# Altium footprint library F839C0300051.PcbLib: 1 footprints
Each footprint in its own frame and in the unit in brackets; x right, y up, seen from the top. Pads: shape width x height; smd on the part's side, far side on the other; paste and mask are expansions set on the pad; w line width, h text height; cw(c..) or ccw(c..) is an arc to the next point about the centre after c.
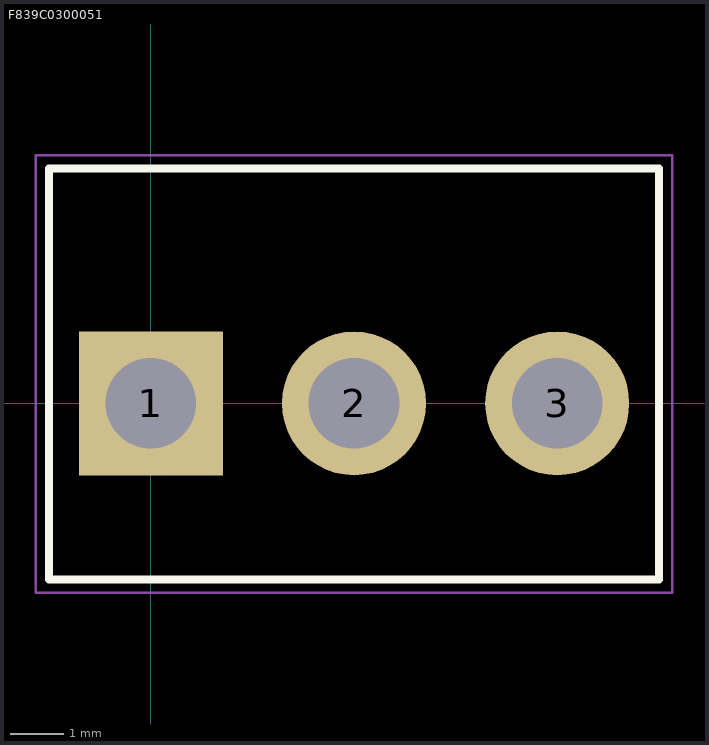
[diagram p0: the footprint, top view; thin cyan lines are the x and y axes]

## F839C0300051 [mm]
height 7.7
pads (3):
  rect 2.7x2.7 hole 1.7: 1(0,0)
  round 2.7 hole 1.7: 2(3.81,0) 3(7.62,0)
Top Overlay:
  lines w0.152: -1.905,-3.3 9.525,-3.3 9.525,4.4 -1.905,4.4 -1.905,-3.3
Mechanical 13:
  lines w0.1: -1.905,-3.3 -1.905,4.4 9.525,4.4 9.525,-3.3 -1.905,-3.3
Mechanical 15:
  lines w0.05: -2.155,-3.55 9.775,-3.55 9.775,4.65 -2.155,4.65 -2.155,-3.55
3D body: height 11, standoff -4.5, extent -1.905,-3.3 9.525,4.4